# Altium integrated library Connector - Registered Jack.IntLib: 1 symbol
Pins are listed as number, name and electrical type; pins without a type are passive.

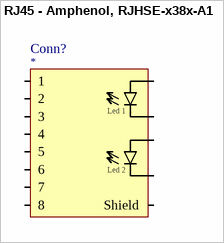
[diagram p0: symbol RJ45 - Amphenol, RJHSE-x38x-A1]

## RJ45 - Amphenol, RJHSE-x38x-A1
designator Conn?
Conn, RJ45, 2 Leds, Shielded, Side Entry; Manufacturer: Amphenol; Component Category: Connector; ComponentLink1Description: Datasheet; ComponentLink1URL: E:\Altium\Datasheets\Connector - Registered Jack\RJ45 - Amphenol, RJHSE-x38x-A1.pdf; ComponentLink2Description: Supplier Link; ComponentLink2URL: *; Supplier: Digikey; Supplier Part Number: *; Operating Temperature, Min: -55℃; Operating Temperature, Max: +85℃; Quantity, Min: *; Quantity, Max: *; Price, Min: *; Supplier Currency: *; Price, Max: *; Supplier Link: *; Component Type: PCB; Package: RJ45; Manufacturer Part Number: *
footprint RJ45 - Amphenol, RJHSE-x38x-A1
pins: 1, 2, 3, 4, 5, 6, 7, 8, L1-A, L1-C, L2-A, L2-C, Shield
text: Led 1; Led 2